# Altium footprint library minidisplayPort.PcbLib: 2 footprints
Each footprint in its own frame and in the unit in brackets; x right, y up, seen from the top. Pads: shape width x height; smd on the part's side, far side on the other; paste and mask are expansions set on the pad; w line width, h text height; cw(c..) or ccw(c..) is an arc to the next point about the centre after c.
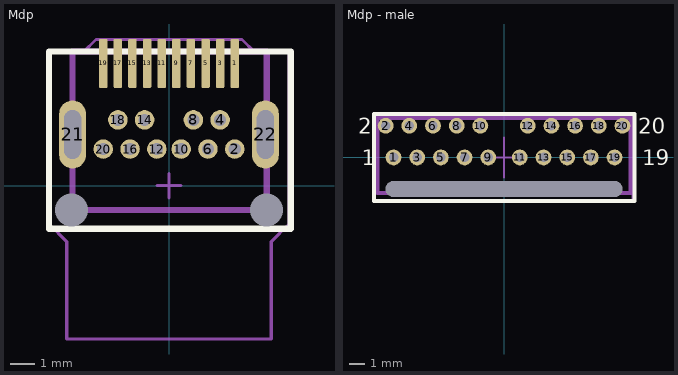
[diagram p0: the footprints below, top view; thin cyan lines are the x and y axes]

## Mdp [mm]
pads (24):
  round 0 hole 1.35 unplated: 0(-4,-1) 0(4,-1)
  rrect30% 0.35x2.01 smd: 1(2.7,5.015) 3(2.1,5.015) 5(1.5,5.015) 7(0.9,5.015) 9(0.3,5.015) 11(-0.3,5.015) 13(-0.9,5.015) 15(-1.5,5.015) 17(-2.1,5.015) 19(-2.7,5.015)
  round 0.8 hole 0.5: 2(2.7,1.5) 4(2.1,2.7) 6(1.6,1.5) 8(1,2.7) 10(0.5,1.5) 12(-0.5,1.5) 14(-1,2.7) 16(-1.6,1.5) 18(-2.1,2.7) 20(-2.7,1.5)
  oval 1.1x2.8 hole 0.7 slot 2 at 90 deg unplated: 21(-3.96,2.1) 22(3.96,2.1)
Top Overlay:
  lines w0.254: -4.925,-1.773 -4.925,5.51 5,5.51 5,-1.773 -4.925,-1.773
Mechanical 13:
  lines w0.254: -3.967,-1.004 4.017,-1.004 4.017,5.51 -3.967,5.51 -3.967,-1.004
Mechanical 15:
  lines w0.127: -0.5,0 0.5,0 ; 0,-0.5 0,0.5 ; -4.925,-1.575 -4.925,5.5 -3.5,5.5 -3,6 3,6 3.5,5.5 4.925,5.5 4.925,-1.575 4.2,-2.3 4.2,-6.3 -4.2,-6.3 -4.2,-2.3 -4.925,-1.575

## Mdp - male [mm] "C'est une empreinte voulue pour souder les cable.Mini-display port"
pads (21):
  round 0 hole 1 slot 15 at 0 deg unplated: 0(0,-2)
  round 1 hole 0.6: 1(-7,0) 2(-7.5,2) 3(-5.5,0) 4(-6,2) 5(-4,0) 6(-4.5,2) 7(-2.5,0) 8(-3,2) 9(-1,0) 10(-1.5,2) 11(1,0) 12(1.5,2) 13(2.5,0) 14(3,2) 15(4,0) 16(4.5,2) 17(5.5,0) 18(6,2) 19(7,0) 20(7.5,2)
Top Overlay:
  lines w0.254: -8.25,-2.75 8.25,-2.75 8.25,2.75 -8.25,2.75 -8.25,-2.75
  text "1" at -9,-0.5 h1
  text "20" at 8.5,1.5 h1
  text "2" at -9.25,1.5 h1
  text "19" at 8.75,-0.5 h1
Mechanical 13:
  lines w0.254: -8,-2.25 -8,2.512 8,2.512 8,-2.25 -8,-2.25
Mechanical 15:
  lines w0.127: -1.27,0 1.27,0 ; 0,-1.27 0,1.27 ; -8.172,-2.75 -8.172,2.613 8.147,2.613 8.147,-2.75 -8.172,-2.75